# Altium footprint library FPGA.PcbLib: 1 footprints
Each footprint in its own frame and in the unit in brackets; x right, y up, seen from the top. Pads: shape width x height; smd on the part's side, far side on the other; paste and mask are expansions set on the pad; w line width, h text height; cw(c..) or ccw(c..) is an arc to the next point about the centre after c.
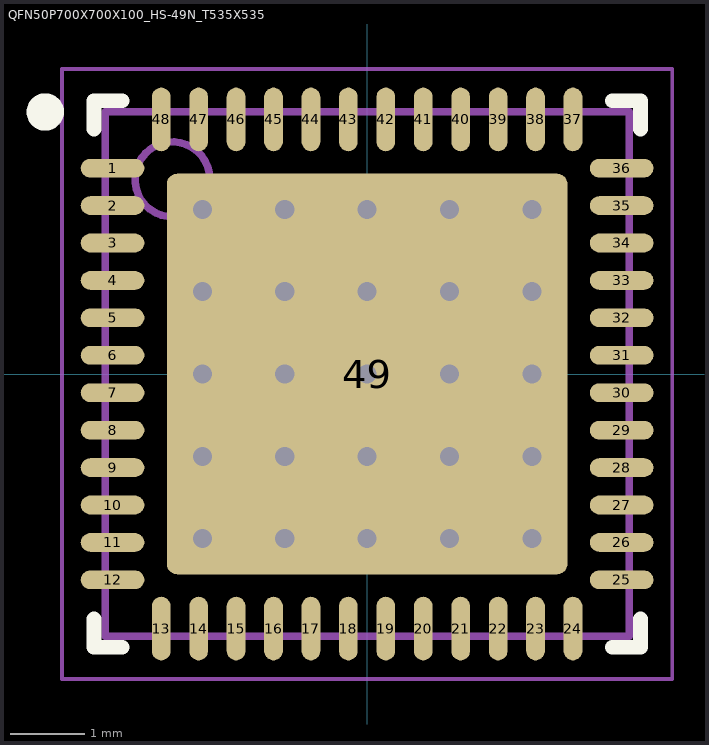
[diagram p0: the footprint, top view; thin cyan lines are the x and y axes]

## QFN50P700X700X100_HS-49N_T535X535 [mm] "QFN, 48-Leads, Body 7.00x7.00mm, Pitch 0.50mm, Thermal Pad 5.35x5.35mm, IPC Medium Density"
height 1
pads (49):
  oval 0.85x0.25 smd: 1(-3.4,2.75) 2(-3.4,2.25) 3(-3.4,1.75) 4(-3.4,1.25) 5(-3.4,0.75) 6(-3.4,0.25) 7(-3.4,-0.25) 8(-3.4,-0.75) 9(-3.4,-1.25) 10(-3.4,-1.75) 11(-3.4,-2.25) 12(-3.4,-2.75) 25(3.4,-2.75) 26(3.4,-2.25) 27(3.4,-1.75) 28(3.4,-1.25) 29(3.4,-0.75) 30(3.4,-0.25) 31(3.4,0.25) 32(3.4,0.75) 33(3.4,1.25) 34(3.4,1.75) 35(3.4,2.25) 36(3.4,2.75)
  oval 0.25x0.85 smd: 13(-2.75,-3.4) 14(-2.25,-3.4) 15(-1.75,-3.4) 16(-1.25,-3.4) 17(-0.75,-3.4) 18(-0.25,-3.4) 19(0.25,-3.4) 20(0.75,-3.4) 21(1.25,-3.4) 22(1.75,-3.4) 23(2.25,-3.4) 24(2.75,-3.4) 37(2.75,3.4) 38(2.25,3.4) 39(1.75,3.4) 40(1.25,3.4) 41(0.75,3.4) 42(0.25,3.4) 43(-0.25,3.4) 44(-0.75,3.4) 45(-1.25,3.4) 46(-1.75,3.4) 47(-2.25,3.4) 48(-2.75,3.4)
  rrect5% 5.35x5.35 smd paste-2.5: 49(0,0)
via -2.2,2.2 diameter 0.61 hole 0.254
via -1.1,2.2 diameter 0.61 hole 0.254
via 0,2.2 diameter 0.61 hole 0.254
via 1.1,2.2 diameter 0.61 hole 0.254
via 2.2,2.2 diameter 0.61 hole 0.254
via -2.2,1.1 diameter 0.61 hole 0.254
via -1.1,1.1 diameter 0.61 hole 0.254
via 0,1.1 diameter 0.61 hole 0.254
via 1.1,1.1 diameter 0.61 hole 0.254
via 2.2,1.1 diameter 0.61 hole 0.254
via -2.2,0 diameter 0.61 hole 0.254
via -1.1,0 diameter 0.61 hole 0.254
via 0,0 diameter 0.61 hole 0.254
via 1.1,0 diameter 0.61 hole 0.254
via 2.2,0 diameter 0.61 hole 0.254
via -2.2,-1.1 diameter 0.61 hole 0.254
via -1.1,-1.1 diameter 0.61 hole 0.254
via 0,-1.1 diameter 0.61 hole 0.254
via 1.1,-1.1 diameter 0.61 hole 0.254
via 2.2,-1.1 diameter 0.61 hole 0.254
via -2.2,-2.2 diameter 0.61 hole 0.254
via -1.1,-2.2 diameter 0.61 hole 0.254
via 0,-2.2 diameter 0.61 hole 0.254
via 1.1,-2.2 diameter 0.61 hole 0.254
via 2.2,-2.2 diameter 0.61 hole 0.254
Top Overlay:
  circle w0.25: c-4.3,3.5 r0.125
  lines w0.2: -3.65,-3.275 -3.65,-3.65 -3.275,-3.65 ; -3.65,3.275 -3.65,3.65 -3.275,3.65 ; 3.275,-3.65 3.65,-3.65 3.65,-3.275 ; 3.275,3.65 3.65,3.65 3.65,3.275
Top Paste:
  region: 0.127,0.127 2.54,0.127 2.54,2.54 0.127,2.54
  region: 0.127,-0.127 0.127,-2.54 2.54,-2.54 2.54,-0.127
  region: -0.127,-0.127 -2.54,-0.127 -2.54,-2.54 -0.127,-2.54
  region: -0.127,0.127 -0.127,2.54 -2.54,2.54 -2.54,0.127
Mechanical 13:
  circle w0.1: c-2.6,2.6 r0.5
  lines w0.1: -3.5,-3.5 -3.5,3.5 3.5,3.5 3.5,-3.5 -3.5,-3.5
Mechanical 15:
  lines w0.05: -4.075,-4.075 -4.075,4.075 4.075,4.075 4.075,-4.075 -4.075,-4.075
  lines w0.1: -0.5,0 0.5,0 ; 0,-0.5 0,0.5
3D body "QFN50P700X700X100_HS-49N_T535X535.step": height 1, standoff 0, extent -3.501,-3.501 3.501,3.501